# Altium schematic symbol library AditionalSymbols.SchLib: 3 symbols
Pins are listed as number, name and electrical type; pins without a type are passive.

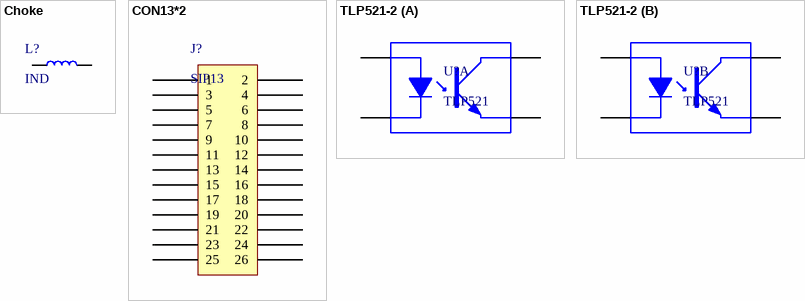
[diagram p0: symbols Choke to TLP521-2]

## Choke
designator L?, comment IND
footprint Choke10.5 (Choke Inductor 10.5mm)
footprint CHOKE_PAD (Choke Inductor SMD)
pins: 1, 2

## CON13*2
designator J?, comment SIP13
footprint SIP13*2
footprint SIP13*2 - HDR
pins: 1, 2, 3, 4, 5, 6, 7, 8, 9, 10, 11, 12, 13, 14, 15, 16, 17, 18, 19, 20, 21, 22, 23, 24, 25, 26

## TLP521-2
designator U?, comment TLP521
PhotoCoupler
part A pins: 1 A, 2 K, 7 E, 8 C
part B pins: 3 A, 4 K, 5 E, 6 C